# Altium schematic symbol library ARDUINO_UNO_CH340.SchLib: 28 symbols
Pins are listed as number, name and electrical type; pins without a type are passive.

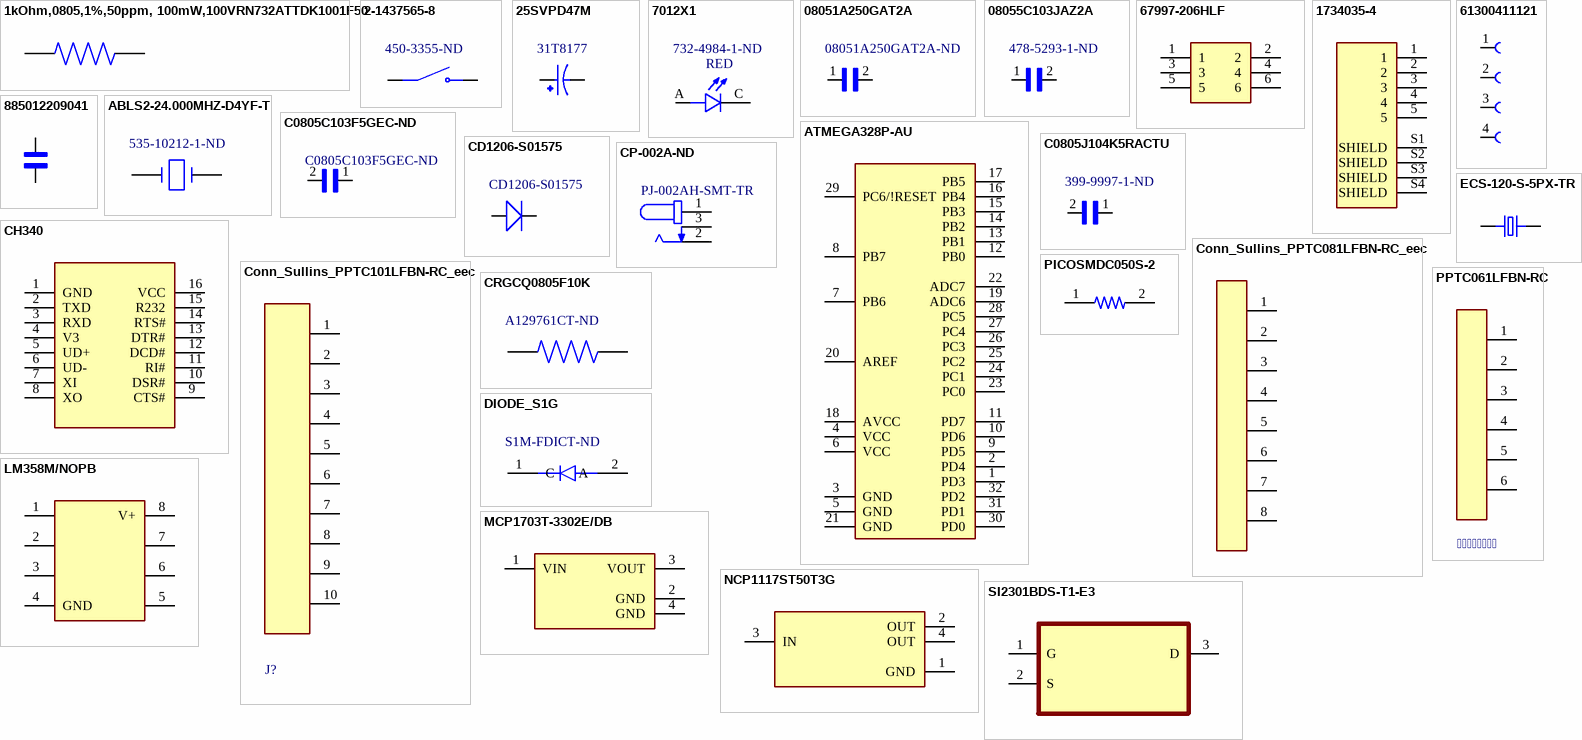
[diagram p0: symbols 1kOhm,0805,1%,50ppm, 100mW,100VRN732ATTDK1001F50 to SI2301BDS-T1-E3]

## 1kOhm,0805,1%,50ppm, 100mW,100VRN732ATTDK1001F50
designator R?  (value not drawn)
Thin Film Resistors - SMD 1kOhm,0805,1%,50ppm, 100mW,100V; MP: RN732ATTDK1001F50; Package: None; Price: None; Value: *; Availability: Unavailable; Supplier 1: Future Electronics; Supplier Part Number 1: 7028531
footprint RESC2012X60N
pins: 1, 2

## 2-1437565-8
designator S  Supplier Part Number 1: 450-3355-ND  (hidden comment: *)
Tactile Switch SPST-NO Top Actuated Surface Mount; MF: TE Connectivity; Configuration_Pole-Throw: Single Pole - Single Throw; Contact_Current_Rating: 50 mA; MP: 2-1437565-8; SnapEDA_Link: https://www.snapeda.com/parts/2-1437565-8/TE%20Connectivity%20ALCOSWITCH%20Switches/view-part/455292/?ref=snap; Availability: Unavailable; TE_purchase_URL: https://www.te.com/usa-en/product-2-1437565-8.html?te_bu=Cor&te_type=disp&te_campaign=seda_glo_cor-seda-global-disp-prtnr-fy19-seda-model-bom-cta_sma-317_1&elqCampaignId=32493; Value: *; Price: None; Package: None; Supplier 1: Digi-Key
footprint SW_2-1437565-8
pins: 1 COM, 2 COM, 3 NO, 4 NO

## 25SVPD47M
designator C?, comment Supplier Part Number 1: 31T8177  (hidden comment: CAP ALUM 47UF 20% 25V SMD)
47 µF 25 V Aluminum Electrolytic Capacitors Radial, Can - SMD - 3000 Hrs @ 105°C; MP: 25SVPD47M; Package: None; Availability: Unavailable; Value: *; Price: None; Supplier 1: Newark
footprint CAP_25SVPD47M
pins: 1, 2

## 7012X1
designator D?  Supplier Part Number 1: 732-4984-1-ND  (hidden comment: *)
Red LED Indication - Discrete 1.7V 0805 (2012 Metric); MP: 7012X1; Package: None; Price: None; Value: *; Availability: Unavailable; Supplier 1: Digi-Key
footprint LED_7012X1
pins: A, C
text: RED

## 08051A250GAT2A
designator C5, comment Supplier Part Number 1: 08051A250GAT2A-ND  (hidden comment: CAP CER 25PF 100V NP0 0805)
25 pF ±2% 100V Ceramic Capacitor C0G, NP0 0805 (2012 Metric); MP: 08051A250GAT2A; Package: None; Price: None; Value: *; Availability: Unavailable; Supplier 1: Digi-Key
footprint CAPC2012X94N
pins: 1, 2

## 08055C103JAZ2A
designator C?  Supplier Part Number 1: 478-5293-1-ND  (hidden comment: *)
.01UF 50V 5% 080; MP: 08055C103JAZ2A; Package: None; Price: None; Value: *; Availability: Unavailable; Supplier 1: Digi-Key
footprint 50V 0.01uf_CAPC2012X94N - duplicate
pins: 1, 2

## 67997-206HLF
designator J  (value not drawn)
Connector Header Through Hole 6 position 0.100 _2.54mm_; MF: Amphenol ICC; MP: 67997-206HLF; SnapEDA_Link: https://www.snapeda.com/parts/67997-206HLF/Amphenol%20FCI/view-part/103429/?ref=snap; Value: *; Digi-Key_Purchase_URL: https://www.digikey.com/product-detail/en/amphenol-icc-fci/67997-206HLF/609-3234-ND/1878491?utm_source=snapeda&utm_medium=aggregator&utm_campaign=symbol; Digi-Key_Part_Number: 609-3234-ND; Package: None
footprint FRAMATOME_67997-206HLF
pins: 1, 2, 3, 4, 5, 6

## 1734035-4
designator J  (value not drawn)
Conn Mini USB 2.0 Type B RCP 5 POS 0.8mm Solder RA SMD 5 Terminal 1 Port Automotive T/R; MF: TE Connectivity; Centerline_Pitch: .8 mm[.031 in]; Product_Type: Connector; MP: 1734035-4; Number_of_Positions: 5; Digi-Key_Purchase_URL: https://www.digikey.com/product-detail/en/te-connectivity-amp-connectors/1734035-4/A121554CT-ND/5246531?utm_source=snapeda&utm_medium=aggregator&utm_campaign=symbol; TE_purchase_URL: https://www.te.com/usa-en/product-1734035-4.html?te_bu=Cor&te_type=disp&te_campaign=seda_glo_cor-seda-global-disp-prtnr-fy19-seda-model-bom-cta_sma-317_1&elqCampaignId=32493; Value: *; Digi-Key_Part_Number: A121554CT-ND; SnapEDA_Link: https://www.snapeda.com/parts/1734035-4/TE%20Connectivity%20AMP%20Connectors/view-part/422958/?ref=snap; EU_RoHS_Compliance: Compliant; Package: None
footprint J_SMD_1734035-4-5_0.8_9.9_8.85_3.9
pins: 1, 2, 3, 4, 5, S1 SHIELD, S2 SHIELD, S3 SHIELD, S4 SHIELD

## 61300411121
designator K?  (value not drawn)
Connector Header Through Hole 4 position 0.100 (2.54mm); MF: WÃ¼rth Elektronik; MP: 61300411121; Price: None; Check_prices: https://www.snapeda.com/parts/61300411121/W%C3%BCrth%20Elektronik/view-part/4802916/?ref=eda; SnapEDA_Link: https://www.snapeda.com/parts/61300411121/W%C3%BCrth%20Elektronik/view-part/4802916/?ref=snap; Package: None; Availability: In Stock; Value: *
footprint 61300411121
pins: 1, 2, 3, 4

## 885012209041
designator C?  (value not drawn)
WCAP-CSGP General Purpose MLCC; SMT 1210; X7R; 100nF 10%; 50V; -55C to +125C; Tech. PN X7R1210104K050DFCT1000; MP: 885012209041; Package: None; Price: None; Value: *; Availability: Unavailable
footprint WCAP-CSGP_885012209041
pins: 1, 2

## ABLS2-24.000MHZ-D4YF-T
designator CO?, comment Supplier Part Number 1: 535-10212-1-ND  (hidden comment: CRYSTAL 16.0000MHZ 18PF SMD)
24MHz Â±30ppm Crystal 18pF 40 Ohms HC-49/US; MP: ABLS2-24.000MHZ-D4YF-T; MF: Abracon; Value: *; Availability: Good; SnapEDA_Link: https://www.snapeda.com/parts/ABLS2-24.000MHZ-D4YF-T/Abracon%20LLC/view-part/412221/?ref=snap; Purchase-URL: https://pricing.snapeda.com/search/part/ABLS2-24.000MHZ-D4YF-T/?ref=eda; Price: None; Check_prices: https://www.snapeda.com/parts/ABLS2-24.000MHZ-D4YF-T/Abracon%20LLC/view-part/412221/?ref=eda; Package: HC49/US Abracon; Supplier 1: Digi-Key
footprint XTAL_ABLS2-24.000MHZ-D4YF-T
pins: 1, 2

## ATMEGA328P-AU
designator MC?  (value not drawn)
AVR AVRÂ® ATmega Microcontroller IC 8-Bit 20MHz 32KB _16K x 16_ FLASH 32-TQFP _7x7_; MP: ATMEGA328P-AU; MF: Microchip; Value: *; SnapEDA_Link: https://www.snapeda.com/parts/ATMEGA328P-AU/Microchip/view-part/44280/?ref=snap; Availability: Unavailable; Price: None; Package: TQFP-32 Microchip; Supplier 1: RSComponents; Supplier Part Number 1: 1310271
footprint QFP80P900X900X120-32N
pins: 1 PD3, 2 PD4, 3 GND (power), 4 VCC (power), 5 GND (power), 6 VCC (power), 7 PB6, 8 PB7, 9 PD5, 10 PD6, 11 PD7, 12 PB0, 13 PB1, 14 PB2, 15 PB3, 16 PB4, 17 PB5, 18 AVCC (power), 19 ADC6, 20 AREF, 21 GND (power), 22 ADC7, 23 PC0, 24 PC1, 25 PC2, 26 PC3, 27 PC4, 28 PC5, 29 PC6/!RESET, 30 PD0, 31 PD1, 32 PD2

## C0805C103F5GEC-ND
designator C, comment Supplier Part Number 1: C0805C103F5GEC-ND  (hidden comment: CAP CER 0805 10NF 50V C0G 1%)
±1% 50V Ceramic Capacitor C0G, NP0 0805 (2012 Metric); MF: KEMET; MP: C0805J104K5RACTU; SnapEDA_Link: https://www.snapeda.com/parts/C0805J104K5RACTU/KEMET/view-part/1757688/?ref=snap; Mouser-Purchase-URL: https://snapeda.com/shop?store=Mouser&id=1757688; Availability: Warning; Value: *; Package: 0805 KEMET; Price: None; Supplier 1: Digi-Key
footprint CAPC2012X88N
pins: 1, 2

## C0805J104K5RACTU
designator C  Supplier Part Number 1: 399-9997-1-ND  (hidden comment: *)
CAP MLCC, 0.1UF, 50V, X7R, 10%, 0805; Product Range: KEMET - J Series; Capacitance; MP: C0805J104K5RACTU; SnapEDA_Link: https://www.snapeda.com/parts/C0805J104K5RACTU/KEMET/view-part/1757688/?ref=snap; MF: KEMET; Mouser-Purchase-URL: https://snapeda.com/shop?store=Mouser&id=1757688; Availability: Warning; Value: *; Package: 0805 KEMET; Price: None; Supplier 1: Digi-Key
footprint CAPC2012X88N
pins: 1, 2

## CD1206-S01575
designator D, comment Supplier Part Number 1: CD1206-S01575  (hidden comment: DIODE GEN PURP 100V 150MA 1206)
Diode Standard 100V 150mA Surface Mount 1206; MF: Bourns; Price: None; Availability: Unavailable; Package: 1206 Bourns; MP: CD1206-S01575; Value: *; SnapEDA_Link: https://www.snapeda.com/parts/CD1206-S01575/Bourns%20-%20J.W.%20Miller/view-part/42622/?ref=snap; Supplier 1: Avnet
footprint DIODE
pins: NEG, POS

## CH340
designator U, comment Supplier Part Number 1: 317990026  (hidden comment: CH340 USB 2.0 to UART Interface Evaluation Board)
MF: DFRobot; Value: *; Price: None; Package: None; SnapEDA_Link: https://www.snapeda.com/parts/CH340/DFRobot/view-part/53354/?ref=snap; Availability: Unavailable; MP: CH340; Supplier 1: Onlinecomponents.com
footprint SO16
pins: 1 GND (power), 2 TXD, 3 RXD, 4 V3, 5 UD+, 6 UD-, 7 XI, 8 XO, 9 CTS#, 10 DSR#, 11 RI#, 12 DCD#, 13 DTR#, 14 RTS#, 15 R232, 16 VCC (power)

## Conn_Sullins_PPTC081LFBN-RC_eec
designator J?
CONN HEADER FEMALE 8POS .1" TIN; Manufacturer: Sullins; Part Number: PPTC081LFBN-RC; Is Female: yes; helpURL: https://upverter.com/upn/revision/35dac8b21b21bbc7/; ComponentLink2Description: Datasheet; Temperature: -40°C to +105°C; Package: HDR8; Supplier 2: Mouser; Price: 0.506645376634; Supplier 1: Digi-Key; ComponentLink1URL: https://upverter.com/upn/revision/35dac8b21b21bbc7/; Supplier Part Number 1: S7006-ND; ComponentLink1Description: Upverter; ComponentLink2URL: http://www.sullinscorp.com/drawings/78_P(N)PxCxxxLFBN-RC,_10492-H.pdf; RoHS: TRUE; Temperature Range High: +105°C; Digikey Description: CONN HEADER FEMALE 8POS .1" TIN; Digikey Part Number: S7006-ND; Lead Free: yes; Temperature Range Low: -40°C
footprint Sullins_PPTC081LFBN-RC_0
pins: 1, 2, 3, 4, 5, 6, 7, 8

## Conn_Sullins_PPTC101LFBN-RC_eec
designator J?
CONN HEADER FEMALE 10POS.1" TIN; Manufacturer: Sullins; Part Number: PPTC101LFBN-RC; Category Bda670Ac885E6661: Uncategorized; Category E7012A0Bd22E3Cc6: Headers & Receptacles; contact_material: Phosphor Bronze; pin_pitch: 2.54 mm; Is Female: yes; number_of_rows: 1; Category 75Fab8F04590Ae3D: Connectors and Adapters; number_of_positions: 10; Symbol 0 0: Standard; Category 0836C53C3D42D3F1: Connectors; helpURL: https://upverter.com/upn/revision/438243a39a4aeeed/; ComponentLink2Description: Datasheet; Temperature: -40°C to +105°C; Package: HDR10; Supplier 2: Mouser; Price: 0.506714616829; Supplier 1: Digi-Key; ComponentLink1URL: https://upverter.com/upn/revision/438243a39a4aeeed/; Supplier Part Number 1: S7008-ND; ComponentLink1Description: Upverter; ComponentLink2URL: http://www.sullinscorp.com/drawings/78_P(N)PxCxxxLFBN-RC,_10492-H.pdf; RoHS: TRUE; Temperature Range High: +105°C; Octopart Part Number: a3ed6ae3a4397c2a; Digikey Description: CONN HEADER FEMALE 10POS.1" TIN; Digikey Part Number: S7008-ND; Category A3C16Ecb93907806: Uncategorized; Type: integrated circuit; Lead Free: yes; Temperature Range Low: -40°C; Mounting Type: through hole; Num Pins: 10; housing_material: Plastic
footprint Sullins_PPTC101LFBN-RC_0 - duplicate2
pins: 1, 2, 3, 4, 5, 6, 7, 8, 9, 10

## CP-002A-ND
designator *, comment Supplier Part Number 1: PJ-002AH-SMT-TR  (hidden comment: CONN PWR JACK 2X5.5MM SOLDER)
Power Barrel Connector Jack 2.10mm ID (0.083"), 5.50mm OD (0.217") Through Hole, Right Angle; Supplier 1: Onlinecomponents.com
footprint POWERJACK_CUI_PJ-002A
pins: 1, 2, 3

## CRGCQ0805F10K
designator R  Supplier Part Number 1: A129761CT-ND  (hidden comment: *)
Fixed Resistor CRGCQ 0805 10K 1%; MP: CRGCQ0805F10K; MF: TE Connectivity; DigiKey-Purchase-URL: https://snapeda.com/shop?store=DigiKey&id=3188209; Arrow_Electronics-Purchase-URL: https://snapeda.com/shop?store=Arrow+Electronics&id=3188209; Availability: Unavailable; SnapEDA_Link: https://www.snapeda.com/parts/CRGCQ0805F10K/TE%20Connectivity/view-part/3188209/?ref=snap; Package: 2012 TE Connectivity; Price: None; Value: *; Supplier 1: Digi-Key
footprint RESC2012X65N
pins: 1, 2

## DIODE_S1G
designator D, comment Supplier Part Number 1: S1M-FDICT-ND  (hidden comment: S1M-FDITR-ND)
DIODE GEN PURP 1KV 1A SMA; MF: ON Semiconductor; MP: ES1G; Package: DO-214AC-214 ON Semiconductor; Value: *; Price: None; Availability: Unavailable; SnapEDA_Link: https://www.snapeda.com/parts/ES1G/ON%20Semiconductor/view-part/1427700/?ref=snap; Supplier 1: Digi-Key
footprint DIODE_DIOM4226X244N
pins: 1 C, 2 A

## ECS-120-S-5PX-TR
designator Y  (value not drawn)
12MHz Â±30ppm Crystal Series 50 Ohms HC-49/US; MF: ECS Inc.; MP: ECS-120-S-5PX-TR; DigiKey-Purchase-URL: https://snapeda.com/shop?store=DigiKey&id=2458096; Mouser-Purchase-URL: https://snapeda.com/shop?store=Mouser&id=2458096; Value: *; Availability: Unavailable; Arrow_Electronics-Purchase-URL: https://snapeda.com/shop?store=Arrow+Electronics&id=2458096; Price: None; Package: HC49/US ECS International; SnapEDA_Link: https://www.snapeda.com/parts/ECS-120-S-5PX-TR/ECS%20Inc./view-part/2458096/?ref=snap
footprint XTAL_ECS-120-S-5PX-TR
pins: 1, 2

## LM358M/NOPB
designator U?  (value not drawn)
2-Channel, 1MHz, industry standard, 32V op amp 8-SOIC 0 to 70; MF: Texas Instruments; MP: LM358M; Digi-Key_Part_Number: LM358MX/NOPBTR-ND; SnapEDA_Link: https://www.snapeda.com/parts/LM358M/Texas%20Instruments/view-part/4800527/?ref=snap; Package: SOIC-8 Texas Instruments; DigiKey-Purchase-URL: https://snapeda.com/shop?store=DigiKey&id=4800527; Value: *; Check_prices: https://www.snapeda.com/parts/LM358M/Texas%20Instruments/view-part/4800527/?ref=eda
footprint SOIC127P599X175-8N
pins: 1 OUTA, 2 -INA, 3 +INA, 4 GND (power), 5 +INB, 6 -INB, 7 OUTB, 8 V+ (power)
text: A; B

## MCP1703T-3302E/DB
designator U  (value not drawn)
Linear Voltage Regulator IC 1 Output 250mA SOT-223-3; MP: MCP1703T-3302E/DB; MF: Microchip; Availability: Unavailable; SnapEDA_Link: https://www.snapeda.com/parts/MCP1703T-3302E/DB/Microchip/view-part/1037153/?ref=snap; Value: *; Package: SOT-223-3 Microchip; Price: None
footprint SOT230P700X180-4N - duplicate
pins: 1 VIN, 2 GND (power), 3 VOUT, 4 GND (power)

## NCP1117ST50T3G
designator U, comment Supplier Part Number 1: 71J6563  (hidden comment: FIXED POSITIVE LDO REGULATOR, 5V)
Linear Voltage Regulator IC 1 Output 1A SOT-223; MP: NCP1117ST50T3G; MF: ON Semiconductor; Package: TO-261-4 ON Semiconductor; Price: None; Value: *; SnapEDA_Link: https://www.snapeda.com/parts/NCP1117ST50T3G/ON%20Semiconductor/view-part/836318/?ref=snap; Availability: Unavailable; Supplier 1: Newark
footprint SOT230P700X180-4N
pins: 1 GND (power), 2 OUT, 3 IN, 4 OUT

## PICOSMDC050S-2
designator R  (value not drawn)
Polymeric PTC Resettable Fuse 6V 500mA Ih Surface Mount 0805 _2012 Metric_, Concave; MP: PICOSMDC050S-2; MF: Littelfuse Inc.; Price: None; SnapEDA_Link: https://www.snapeda.com/parts/PICOSMDC050S-2/Littelfuse%20Inc./view-part/1315044/?ref=snap; Value: *; Availability: Unavailable; Package: 0805 TE Connectivity; Supplier 1: Digi-Key; Supplier Part Number 1: PICOSMDC050S-2CT-ND
footprint RESC2012X60N
pins: 1, 2

## PPTC061LFBN-RC
designator J?  (value not drawn)
footprint Sullins_PPTC061LFBN-RC_0
pins: 1, 2, 3, 4, 5, 6

## SI2301BDS-T1-E3
designator U  (value not drawn)
P-Channel 20V 2.2A _Ta_ 700mW _Ta_ Surface Mount SOT-23-3 _TO-236_; MP: SI2301BDS-T1-E3; MF: Vishay; Package: SOT-23-3 Vishay; SnapEDA_Link: https://www.snapeda.com/parts/SI2301BDS-T1-E3/Vishay%20Siliconix/view-part/277675/?ref=snap; Value: *; Availability: Unavailable; Price: None
footprint SOT95P237X112-3N
pins: 1 G, 2 S, 3 D